# Altium footprint library NHD-12232.PcbLib: 1 footprints
Each footprint in its own frame and in the unit in brackets; x right, y up, seen from the top. Pads: shape width x height; smd on the part's side, far side on the other; paste and mask are expansions set on the pad; w line width, h text height; cw(c..) or ccw(c..) is an arc to the next point about the centre after c.
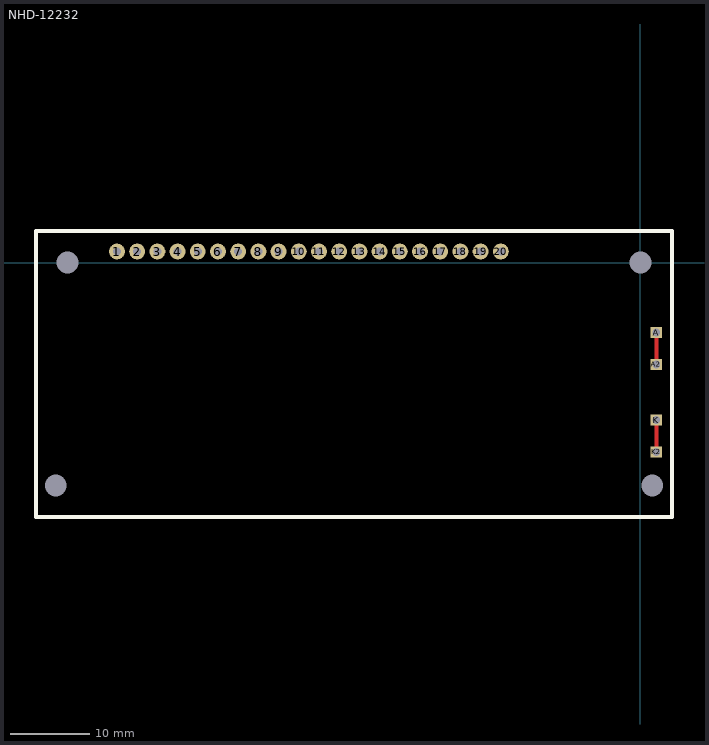
[diagram p0: the footprint, top view; thin cyan lines are the x and y axes]

## NHD-12232 [mm]
pads (28):
  round 2 hole 1: 1(-65.8,1.4) 2(-63.26,1.4) 3(-60.72,1.4) 4(-58.18,1.4) 5(-55.64,1.4) 6(-53.1,1.4) 7(-50.56,1.4) 8(-48.02,1.4) 9(-45.48,1.4) 10(-42.94,1.4) 11(-40.4,1.4) 12(-37.86,1.4) 13(-35.32,1.4) 14(-32.78,1.4) 15(-30.24,1.4) 16(-27.7,1.4) 17(-25.16,1.4) 18(-22.62,1.4) 19(-20.08,1.4) 20(-17.54,1.4)
  round 0 hole 2.75: 21(-72,0) 22(0,0) 23(1.5,-28) 24(-73.5,-28)
  rect 1.4x1.4 hole 1: A(2,-8.8) A2(2,-12.8) K(2,-19.8) K2(2,-23.8)
Top Layer:
  lines w0.5: 2,-23.8 2,-19.8 ; 2,-12.8 2,-8.8
Top Overlay:
  lines w0.5: -76,-32 4,-32 4,4 -76,4 -76,-32
3D body: height 7.37, standoff -3, extent -37,-15 -37,-15
3D body "0003_NHD Display.STEP": height 13.25, standoff 0.01, extent -76,-32 4,4